# Altium schematic symbol library MIC5219-x.SchLib: 20 symbols
Pins are listed as number, name and electrical type; pins without a type are passive.

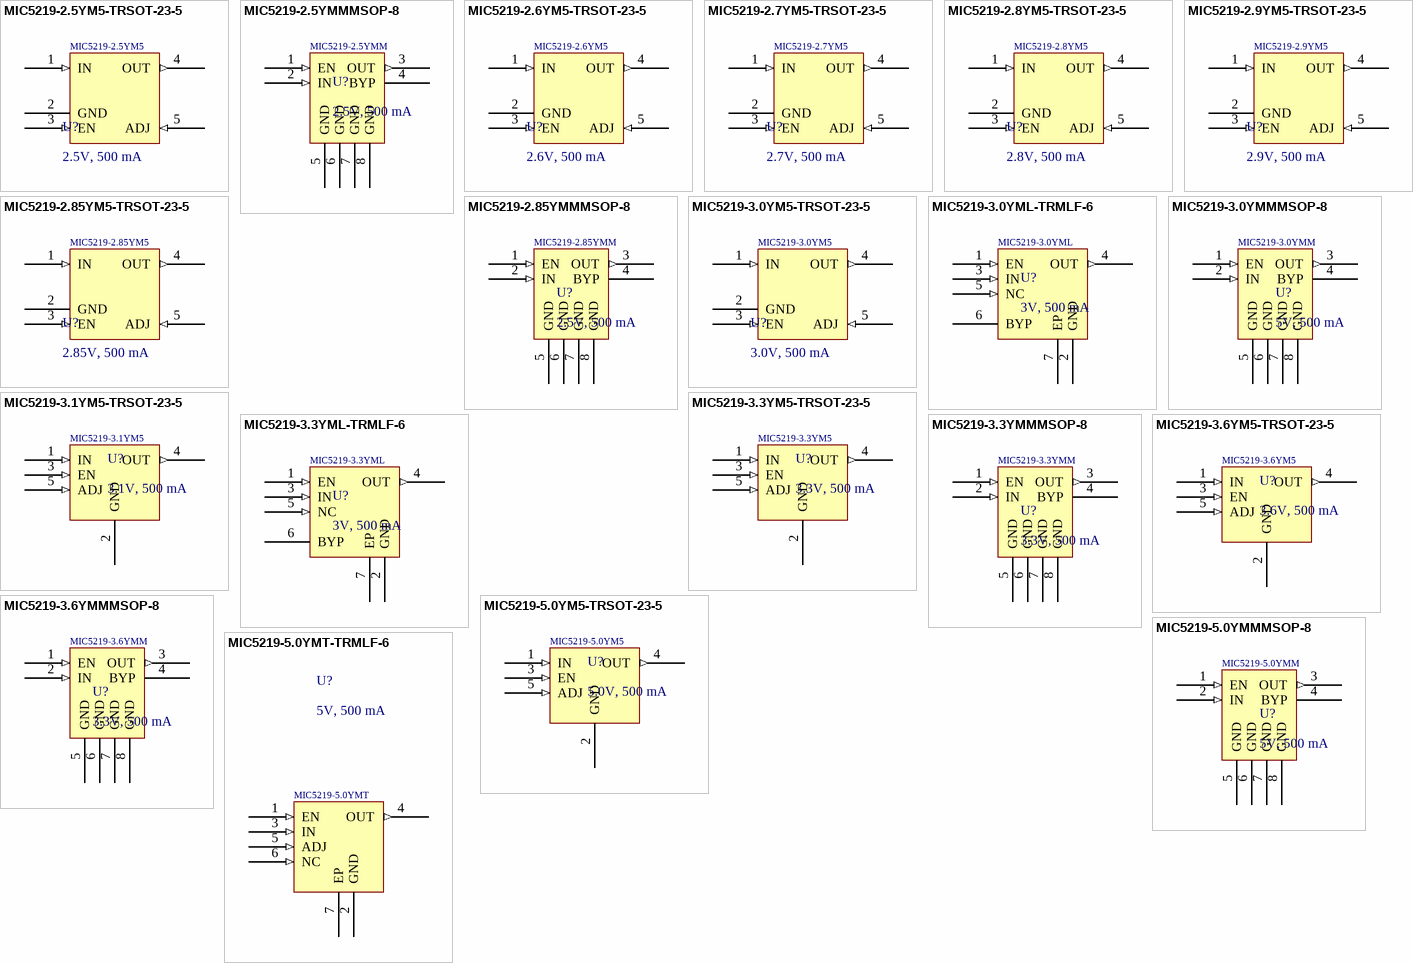
[diagram p0: symbols MIC5219-2.5YM5-TRSOT-23-5 to MIC5219-5.0YMT-TRMLF-6]

## MIC5219-2.5YM5-TRSOT-23-5
designator U?, comment 2.5V, 500 mA
MIC5219-x family LDO Voltage Regulators, 2.5V output; Manufacturer: Microchip; Manufacturer SN: MIC5219-2.5YM5-TR; Number of Outputs: 1; Input Voltage: 2.5 -12 V; Output Current: 500 mA; PSRR: 75 dB; Dropout Voltage: 350-600 mV; Mounting Style: SMD/SMT; Package / Case: SOT-23-5; ComponentLink1Description: Datasheet link; ComponentLink1URL: https://ww1.microchip.com/downloads/en/DeviceDoc/MIC5219-500mA-Peak-Output-LDO-Regulator-DS20006021A.pdf; ComponentLink2Description: Supplier 1 URL; ComponentLink2URL: https://www.mouser.vn/ProductDetail/Microchip-Technology/MIC5219-2.5YM5-TR?qs=U6T8BxXiZAXURjP%2FxpAn8w%3D%3D; ComponentLink3Description: Supplier 2 URL; ComponentLink3URL: https://www.digikey.com/en/products/detail/microchip-technology/MIC5219-2-5YM5-TR/1030543?s=N4IgTCBcDaILIEkDCBWMBGAnAWjAOhQE04VsAVAJRAF0BfIA; ComponentLink4Description: Supplier 3 URL; ComponentLink4URL: N/A; Supplier 1 Name: Mouser; Supplier 1 SN: 998-MIC5219-2.5YM5TR; Supplier 1 URL: https://www.mouser.vn/ProductDetail/Microchip-Technology/MIC5219-2.5YM5-TR?qs=U6T8BxXiZAXURjP%2FxpAn8w%3D%3D; Supplier 2 Name: Digi-Key; Supplier 2 SN: 576-2758-2-ND; Supplier 2 URL: https://www.digikey.com/en/products/detail/microchip-technology/MIC5219-2-5YM5-TR/1030543?s=N4IgTCBcDaILIEkDCBWMBGAnAWjAOhQE04VsAVAJRAF0BfIA; Supplier 3 Name: thegioiic; Supplier 3 SN: N/A; Supplier 3 URL: N/A; Value: 2.5V, 500 mA; Voltage Output: 2.5V
footprint MIC5219-x.xYM5 (MIC5219-x.xYM5, SOT-23-5)
pins: 1 IN (in), 2 GND (power), 3 EN (in), 4 OUT (out), 5 ADJ (in)
text: MIC5219-2.5YM5

## MIC5219-2.5YMMMSOP-8
designator U?, comment 2.5V, 500 mA
MIC5219-x family LDO Voltage Regulators, 2.5V output; Manufacturer: Microchip; Manufacturer SN: MIC5219-2.5YMM; Number of Outputs: 1; Input Voltage: 2.5 -12 V; Output Current: 500 mA; PSRR: 75 dB; Dropout Voltage: 350-600 mV; Mounting Style: SMD/SMT; Package / Case: MSOP-8; ComponentLink1Description: Datasheet link; ComponentLink1URL: https://ww1.microchip.com/downloads/en/DeviceDoc/MIC5219-500mA-Peak-Output-LDO-Regulator-DS20006021A.pdf; ComponentLink2Description: Supplier 1 URL; ComponentLink2URL: https://www.mouser.vn/ProductDetail/Microchip-Technology/MIC5219-2.5YMM?qs=kh6iOki%2FeLGSwVLHtzUtsQ%3D%3D; ComponentLink3Description: Supplier 2 URL; ComponentLink3URL: https://www.digikey.com/en/products/detail/microchip-technology/MIC5219-2-5YMM/1030544; ComponentLink4Description: Supplier 3 URL; ComponentLink4URL: N/A; Supplier 1 Name: Mouser; Supplier 1 SN: 998-MIC5219-2.5YMM; Supplier 1 URL: https://www.mouser.vn/ProductDetail/Microchip-Technology/MIC5219-2.5YMM?qs=kh6iOki%2FeLGSwVLHtzUtsQ%3D%3D; Supplier 2 Name: Digi-Key; Supplier 2 SN: 576-2376-ND; Supplier 2 URL: https://www.digikey.com/en/products/detail/microchip-technology/MIC5219-2-5YMM/1030544; Supplier 3 Name: thegioiic; Supplier 3 SN: N/A; Supplier 3 URL: N/A; Value: 2.5V, 500 mA; Voltage Output: 2.5V
footprint MIC5219-x.xYMM (MIC5219-x.xYMM, SOT-23-5)
pins: 1 EN (in), 2 IN (in), 3 OUT (out), 4 BYP, 5 GND (power), 6 GND (power), 7 GND (power), 8 GND (power)

## MIC5219-2.6YM5-TRSOT-23-5
designator U?, comment 2.6V, 500 mA
MIC5219-x family LDO Voltage Regulators, 2.6V output; Manufacturer: Microchip; Manufacturer SN: MIC5219-2.6YM5-TR; Number of Outputs: 1; Input Voltage: 2.5 -12 V; Output Current: 500 mA; PSRR: 75 dB; Dropout Voltage: 350-600 mV; Mounting Style: SMD/SMT; Package / Case: SOT-23-5; ComponentLink1Description: Datasheet link; ComponentLink1URL: https://ww1.microchip.com/downloads/en/DeviceDoc/MIC5219-500mA-Peak-Output-LDO-Regulator-DS20006021A.pdf; ComponentLink2Description: Supplier 1 URL; ComponentLink2URL: https://www.mouser.vn/ProductDetail/Microchip-Technology/MIC5219-2.6YM5-TR?qs=U6T8BxXiZAU94MGLjAqlLA%3D%3D; ComponentLink3Description: Supplier 2 URL; ComponentLink3URL: https://www.digikey.com/en/products/detail/microchip-technology/MIC5219-2-6YM5-TR/1030548?s=N4IgTCBcDaILIEkDCBWMBGAnAWjAOgDYBNOFbAFQCUQBdAXyA; ComponentLink4Description: Supplier 3 URL; ComponentLink4URL: N/A; Supplier 1 Name: Mouser; Supplier 1 SN: 998-MIC5219-2.6YM5TR; Supplier 1 URL: https://www.mouser.vn/ProductDetail/Microchip-Technology/MIC5219-2.6YM5-TR?qs=U6T8BxXiZAU94MGLjAqlLA%3D%3D; Supplier 2 Name: Digi-Key; Supplier 2 SN: 576-2759-2-ND; Supplier 2 URL: https://www.digikey.com/en/products/detail/microchip-technology/MIC5219-2-6YM5-TR/1030548?s=N4IgTCBcDaILIEkDCBWMBGAnAWjAOgDYBNOFbAFQCUQBdAXyA; Supplier 3 Name: thegioiic; Supplier 3 SN: N/A; Supplier 3 URL: N/A; Value: 2.6V, 500 mA; Voltage Output: 2.6V
footprint MIC5219-x.xYM5 (MIC5219-x.xYM5, SOT-23-5)
pins: 1 IN (in), 2 GND (power), 3 EN (in), 4 OUT (out), 5 ADJ (in)
text: MIC5219-2.6YM5

## MIC5219-2.7YM5-TRSOT-23-5
designator U?, comment 2.7V, 500 mA
MIC5219-x family LDO Voltage Regulators, 2.7V output; Manufacturer: Microchip; Manufacturer SN: MIC5219-2.7YM5-TR; Number of Outputs: 1; Input Voltage: 2.5 -12 V; Output Current: 500 mA; PSRR: 75 dB; Dropout Voltage: 350-600 mV; Mounting Style: SMD/SMT; Package / Case: SOT-23-5; ComponentLink1Description: Datasheet link; ComponentLink1URL: https://ww1.microchip.com/downloads/en/DeviceDoc/MIC5219-500mA-Peak-Output-LDO-Regulator-DS20006021A.pdf; ComponentLink2Description: Supplier 1 URL; ComponentLink2URL: https://www.mouser.vn/ProductDetail/Microchip-Technology/MIC5219-2.7YM5-TR?qs=U6T8BxXiZAX%2Fh5H9qQkMlQ%3D%3D; ComponentLink3Description: Supplier 2 URL; ComponentLink3URL: https://www.digikey.com/en/products/detail/microchip-technology/MIC5219-2-7YM5-TR/1030550?s=N4IgTCBcDaILIEkDCBWMBGAnAWjAOgHYBNOFbAFQCUQBdAXyA; ComponentLink4Description: Supplier 3 URL; ComponentLink4URL: N/A; Supplier 1 Name: Mouser; Supplier 1 SN: 998-MIC5219-2.7YM5TR; Supplier 1 URL: https://www.mouser.vn/ProductDetail/Microchip-Technology/MIC5219-2.7YM5-TR?qs=U6T8BxXiZAX%2Fh5H9qQkMlQ%3D%3D; Supplier 2 Name: Digi-Key; Supplier 2 SN: 576-2760-2-ND; Supplier 2 URL: https://www.digikey.com/en/products/detail/microchip-technology/MIC5219-2-7YM5-TR/1030550?s=N4IgTCBcDaILIEkDCBWMBGAnAWjAOgHYBNOFbAFQCUQBdAXyA; Supplier 3 Name: thegioiic; Supplier 3 SN: N/A; Supplier 3 URL: N/A; Value: 2.7V, 500 mA; Voltage Output: 2.7V
footprint MIC5219-x.xYM5 (MIC5219-x.xYM5, SOT-23-5)
pins: 1 IN (in), 2 GND (power), 3 EN (in), 4 OUT (out), 5 ADJ (in)
text: MIC5219-2.7YM5

## MIC5219-2.8YM5-TRSOT-23-5
designator U?, comment 2.8V, 500 mA
MIC5219-x family LDO Voltage Regulators, 2.8V output; Manufacturer: Microchip; Manufacturer SN: MIC5219-2.8YM5-TR; Number of Outputs: 1; Input Voltage: 2.5 -12 V; Output Current: 500 mA; PSRR: 75 dB; Dropout Voltage: 350-600 mV; Mounting Style: SMD/SMT; Package / Case: SOT-23-5; ComponentLink1Description: Datasheet link; ComponentLink1URL: https://ww1.microchip.com/downloads/en/DeviceDoc/MIC5219-500mA-Peak-Output-LDO-Regulator-DS20006021A.pdf; ComponentLink2Description: Supplier 1 URL; ComponentLink2URL: https://www.mouser.vn/ProductDetail/Microchip-Technology/MIC5219-2.8YM5-TR?qs=U6T8BxXiZAXy80gOmotftg%3D%3D; ComponentLink3Description: Supplier 2 URL; ComponentLink3URL: https://www.digikey.com/en/products/detail/microchip-technology/MIC5219-2-8YM5-TR/1030559?s=N4IgTCBcDaILIEkDCBWMBGAnAWjAOgA4BNOFbAFQCUQBdAXyA; ComponentLink4Description: Supplier 3 URL; ComponentLink4URL: N/A; Supplier 1 Name: Mouser; Supplier 1 SN: 998-MIC5219-2.8YM5TR; Supplier 1 URL: https://www.mouser.vn/ProductDetail/Microchip-Technology/MIC5219-2.8YM5-TR?qs=U6T8BxXiZAXy80gOmotftg%3D%3D; Supplier 2 Name: Digi-Key; Supplier 2 SN: 576-2762-2-ND; Supplier 2 URL: https://www.digikey.com/en/products/detail/microchip-technology/MIC5219-2-8YM5-TR/1030559?s=N4IgTCBcDaILIEkDCBWMBGAnAWjAOgA4BNOFbAFQCUQBdAXyA; Supplier 3 Name: thegioiic; Supplier 3 SN: N/A; Supplier 3 URL: N/A; Value: 2.8V, 500 mA; Voltage Output: 2.8V
footprint MIC5219-x.xYM5 (MIC5219-x.xYM5, SOT-23-5)
pins: 1 IN (in), 2 GND (power), 3 EN (in), 4 OUT (out), 5 ADJ (in)
text: MIC5219-2.8YM5

## MIC5219-2.9YM5-TRSOT-23-5
designator U?, comment 2.9V, 500 mA
MIC5219-x family LDO Voltage Regulators, 2.9V output; Manufacturer: Microchip; Manufacturer SN: MIC5219-2.9YM5-TR; Number of Outputs: 1; Input Voltage: 2.5 -12 V; Output Current: 500 mA; PSRR: 75 dB; Dropout Voltage: 350-600 mV; Mounting Style: SMD/SMT; Package / Case: SOT-23-5; ComponentLink1Description: Datasheet link; ComponentLink1URL: https://ww1.microchip.com/downloads/en/DeviceDoc/MIC5219-500mA-Peak-Output-LDO-Regulator-DS20006021A.pdf; ComponentLink2Description: Supplier 1 URL; ComponentLink2URL: https://www.mouser.vn/ProductDetail/Microchip-Technology/MIC5219-2.9YM5-TR?qs=U6T8BxXiZAUu28ZTWpa0Sw%3D%3D; ComponentLink3Description: Supplier 2 URL; ComponentLink3URL: https://www.digikey.com/en/products/detail/microchip-technology/MIC5219-2-9YM5-TR/1030562?s=N4IgTCBcDaILIEkDCBWMBGAnAWjAOkwE04VsAVAJRAF0BfIA; ComponentLink4Description: Supplier 3 URL; ComponentLink4URL: N/A; Supplier 1 Name: Mouser; Supplier 1 SN: 998-MIC5219-2.9YM5TR; Supplier 1 URL: https://www.mouser.vn/ProductDetail/Microchip-Technology/MIC5219-2.9YM5-TR?qs=U6T8BxXiZAUu28ZTWpa0Sw%3D%3D; Supplier 2 Name: Digi-Key; Supplier 2 SN: 576-2764-2-ND; Supplier 2 URL: https://www.digikey.com/en/products/detail/microchip-technology/MIC5219-2-9YM5-TR/1030562?s=N4IgTCBcDaILIEkDCBWMBGAnAWjAOkwE04VsAVAJRAF0BfIA; Supplier 3 Name: thegioiic; Supplier 3 SN: N/A; Supplier 3 URL: N/A; Value: 2.9V, 500 mA; Voltage Output: 2.9V
footprint MIC5219-x.xYM5 (MIC5219-x.xYM5, SOT-23-5)
pins: 1 IN (in), 2 GND (power), 3 EN (in), 4 OUT (out), 5 ADJ (in)
text: MIC5219-2.9YM5

## MIC5219-2.85YM5-TRSOT-23-5
designator U?, comment 2.85V, 500 mA
MIC5219-x family LDO Voltage Regulators, 2.85V output; Manufacturer: Microchip; Manufacturer SN: MIC5219-2.85YM5-TR; Number of Outputs: 1; Input Voltage: 2.5 -12 V; Output Current: 500 mA; PSRR: 75 dB; Dropout Voltage: 350-600 mV; Mounting Style: SMD/SMT; Package / Case: SOT-23-5; ComponentLink1Description: Datasheet link; ComponentLink1URL: https://ww1.microchip.com/downloads/en/DeviceDoc/MIC5219-500mA-Peak-Output-LDO-Regulator-DS20006021A.pdf; ComponentLink2Description: Supplier 1 URL; ComponentLink2URL: https://www.digikey.com/en/products/detail/microchip-technology/MIC5219-2-85YM5-TR/5700955; ComponentLink3Description: Supplier 2 URL; ComponentLink3URL: https://www.digikey.com/en/products/detail/microchip-technology/MIC5219-2-85YM5-TR/5700955; ComponentLink4Description: Supplier 3 URL; ComponentLink4URL: N/A; Supplier 1 Name: Mouser; Supplier 1 SN: 998-MIC52192.85YM5TR; Supplier 1 URL: https://www.digikey.com/en/products/detail/microchip-technology/MIC5219-2-85YM5-TR/5700955; Supplier 2 Name: Digi-Key; Supplier 2 SN: 576-2761-2-ND; Supplier 2 URL: https://www.digikey.com/en/products/detail/microchip-technology/MIC5219-2-85YM5-TR/5700955; Supplier 3 Name: thegioiic; Supplier 3 SN: N/A; Supplier 3 URL: N/A; Value: 2.85V, 500 mA; Voltage Output: 2.85V
footprint MIC5219-x.xYM5 (MIC5219-x.xYM5, SOT-23-5)
pins: 1 IN (in), 2 GND (power), 3 EN (in), 4 OUT (out), 5 ADJ (in)
text: MIC5219-2.85YM5

## MIC5219-2.85YMMMSOP-8
designator U?, comment 2.5V, 500 mA
MIC5219-x family LDO Voltage Regulators, 2.85V output; Manufacturer: Microchip; Manufacturer SN: MIC5219-2.85YMM; Number of Outputs: 1; Input Voltage: 2.5 -12 V; Output Current: 500 mA; PSRR: 75 dB; Dropout Voltage: 350-600 mV; Mounting Style: SMD/SMT; Package / Case: MSOP-8; ComponentLink1Description: Datasheet link; ComponentLink1URL: https://ww1.microchip.com/downloads/en/DeviceDoc/MIC5219-500mA-Peak-Output-LDO-Regulator-DS20006021A.pdf; ComponentLink2Description: Supplier 1 URL; ComponentLink2URL: https://www.mouser.vn/ProductDetail/Microchip-Technology/MIC5219-2.85YMM?qs=kh6iOki%2FeLGFTrYYM9DwNg%3D%3D; ComponentLink3Description: Supplier 2 URL; ComponentLink3URL: https://www.digikey.com/en/products/detail/microchip-technology/MIC5219-2-85YMM/1030555; ComponentLink4Description: Supplier 3 URL; ComponentLink4URL: N/A; Supplier 1 Name: Mouser; Supplier 1 SN: 998-MIC5219-2.85YMM; Supplier 1 URL: https://www.mouser.vn/ProductDetail/Microchip-Technology/MIC5219-2.85YMM?qs=kh6iOki%2FeLGFTrYYM9DwNg%3D%3D; Supplier 2 Name: Digi-Key; Supplier 2 SN: MIC5219-2.85YMM-ND; Supplier 2 URL: https://www.digikey.com/en/products/detail/microchip-technology/MIC5219-2-85YMM/1030555; Supplier 3 Name: thegioiic; Supplier 3 SN: N/A; Supplier 3 URL: N/A; Value: 2.5V, 500 mA; Voltage Output: 2.5V
footprint MIC5219-x.xYMM (MIC5219-x.xYMM, SOT-23-5)
pins: 1 EN (in), 2 IN (in), 3 OUT (out), 4 BYP, 5 GND (power), 6 GND (power), 7 GND (power), 8 GND (power)

## MIC5219-3.0YM5-TRSOT-23-5
designator U?, comment 3.0V, 500 mA
MIC5219-x family LDO Voltage Regulators, 3.0V output; Manufacturer: Microchip; Manufacturer SN: MIC5219-3.0YM5-TR; Number of Outputs: 1; Input Voltage: 2.5 -12 V; Output Current: 500 mA; PSRR: 75 dB; Dropout Voltage: 350-600 mV; Mounting Style: SMD/SMT; Package / Case: SOT-23-5; ComponentLink1Description: Datasheet link; ComponentLink1URL: https://ww1.microchip.com/downloads/en/DeviceDoc/MIC5219-500mA-Peak-Output-LDO-Regulator-DS20006021A.pdf; ComponentLink2Description: Supplier 1 URL; ComponentLink2URL: https://www.mouser.vn/ProductDetail/Microchip-Technology/MIC5219-3.0YM5-TR?qs=U6T8BxXiZAWAOOoEZYaLhA%3D%3D; ComponentLink3Description: Supplier 2 URL; ComponentLink3URL: https://www.digikey.com/en/products/detail/microchip-technology/MIC5219-3-0YM5-TR/1030566?s=N4IgTCBcDaILIEkDCBWMBGAnAWgMwDoAGATThWwBUAlEAXQF8g; ComponentLink4Description: Supplier 3 URL; ComponentLink4URL: N/A; Supplier 1 Name: Mouser; Supplier 1 SN: 998-MIC5219-3.0YM5TR; Supplier 1 URL: https://www.mouser.vn/ProductDetail/Microchip-Technology/MIC5219-3.0YM5-TR?qs=U6T8BxXiZAWAOOoEZYaLhA%3D%3D; Supplier 2 Name: Digi-Key; Supplier 2 SN: 576-2765-2-ND; Supplier 2 URL: https://www.digikey.com/en/products/detail/microchip-technology/MIC5219-3-0YM5-TR/1030566?s=N4IgTCBcDaILIEkDCBWMBGAnAWgMwDoAGATThWwBUAlEAXQF8g; Supplier 3 Name: thegioiic; Supplier 3 SN: N/A; Supplier 3 URL: N/A; Value: 3.0V, 500 mA; Voltage Output: 3.0V
footprint MIC5219-x.xYM5 (MIC5219-x.xYM5, SOT-23-5)
pins: 1 IN (in), 2 GND (power), 3 EN (in), 4 OUT (out), 5 ADJ (in)
text: MIC5219-3.0YM5

## MIC5219-3.0YML-TRMLF-6
designator U?, comment 3V, 500 mA
MIC5219-x family LDO Voltage Regulators, 3.0V output; Manufacturer: Microchip; Manufacturer SN: MIC5219-3.0YML-TR; Number of Outputs: 1; Input Voltage: 2.5 -12 V; Output Current: 500 mA; PSRR: 75 dB; Dropout Voltage: 350-600 mV; Mounting Style: SMD/SMT; Package / Case: MLF-6; ComponentLink1Description: Datasheet link; ComponentLink1URL: https://ww1.microchip.com/downloads/en/DeviceDoc/MIC5219-500mA-Peak-Output-LDO-Regulator-DS20006021A.pdf; ComponentLink2Description: Supplier 1 URL; ComponentLink2URL: https://www.mouser.vn/ProductDetail/Microchip-Technology/MIC5219-3.0YML-TR?qs=U6T8BxXiZAWwN17UQBAcEg%3D%3D; ComponentLink3Description: Supplier 2 URL; ComponentLink3URL: https://www.digikey.com/en/products/detail/microchip-technology/MIC5219-3-0YML-TR/1030567?s=N4IgTCBcDaILIEkDCBWMBGAnAWgMwDoAGATTgBlsAVAJRAF0BfIA; ComponentLink4Description: Supplier 3 URL; ComponentLink4URL: N/A; Supplier 1 Name: Mouser; Supplier 1 SN: 998-MIC5219-3.0YMLTR; Supplier 1 URL: https://www.mouser.vn/ProductDetail/Microchip-Technology/MIC5219-3.0YML-TR?qs=U6T8BxXiZAWwN17UQBAcEg%3D%3D; Supplier 2 Name: Digi-Key; Supplier 2 SN: 576-2766-2-ND; Supplier 2 URL: https://www.digikey.com/en/products/detail/microchip-technology/MIC5219-3-0YML-TR/1030567?s=N4IgTCBcDaILIEkDCBWMBGAnAWgMwDoAGATTgBlsAVAJRAF0BfIA; Supplier 3 Name: thegioiic; Supplier 3 SN: N/A; Supplier 3 URL: N/A; Value: 3V, 500 mA; Voltage Output: 3V
footprint MIC5219-x.xYML/MT (MIC5219-x.xYML/MT, 6-Pin MLF)
pins: 1 EN (in), 2 GND (power), 3 IN (in), 4 OUT (out), 5 NC (in), 6 BYP, 7 EP (power)
text: MIC5219-3.0YML

## MIC5219-3.0YMMMSOP-8
designator U?, comment 5V, 500 mA
MIC5219-x family LDO Voltage Regulators, 3.0V output; Manufacturer: Microchip; Manufacturer SN: MIC5219-3.0YMM; Number of Outputs: 1; Input Voltage: 2.5 -12 V; Output Current: 500 mA; PSRR: 75 dB; Dropout Voltage: 350-600 mV; Mounting Style: SMD/SMT; Package / Case: MSOP-8; ComponentLink1Description: Datasheet link; ComponentLink1URL: https://ww1.microchip.com/downloads/en/DeviceDoc/MIC5219-500mA-Peak-Output-LDO-Regulator-DS20006021A.pdf; ComponentLink2Description: Supplier 1 URL; ComponentLink2URL: https://www.mouser.vn/ProductDetail/Microchip-Technology/MIC5219-3.0YMM?qs=kh6iOki%2FeLGPfoR%2FMRsl%252BQ%3D%3D; ComponentLink3Description: Supplier 2 URL; ComponentLink3URL: https://www.digikey.com/en/products/detail/microchip-technology/MIC5219-3-0YMM/1030568; ComponentLink4Description: Supplier 3 URL; ComponentLink4URL: N/A; Supplier 1 Name: Mouser; Supplier 1 SN: 998-MIC5219-3.0YMM; Supplier 1 URL: https://www.mouser.vn/ProductDetail/Microchip-Technology/MIC5219-3.0YMM?qs=kh6iOki%2FeLGPfoR%2FMRsl%252BQ%3D%3D; Supplier 2 Name: Digi-Key; Supplier 2 SN: MIC5219-3.0YMM-ND; Supplier 2 URL: https://www.digikey.com/en/products/detail/microchip-technology/MIC5219-3-0YMM/1030568; Supplier 3 Name: thegioiic; Supplier 3 SN: N/A; Supplier 3 URL: N/A; Value: 5V, 500 mA; Voltage Output: 5V
footprint MIC5219-x.xYMM (MIC5219-x.xYMM, SOT-23-5)
pins: 1 EN (in), 2 IN (in), 3 OUT (out), 4 BYP, 5 GND (power), 6 GND (power), 7 GND (power), 8 GND (power)

## MIC5219-3.1YM5-TRSOT-23-5
designator U?, comment 3.1V, 500 mA
MIC5219-x family LDO Voltage Regulators, 3.1V output; Manufacturer: Microchip; Manufacturer SN: MIC5219-3.1YM5-TR; Number of Outputs: 1; Input Voltage: 2.5 -12 V; Output Current: 500 mA; PSRR: 75 dB; Dropout Voltage: 350-600 mV; Mounting Style: SMD/SMT; Package / Case: SOT-23-5; ComponentLink1Description: Datasheet link; ComponentLink1URL: https://ww1.microchip.com/downloads/en/DeviceDoc/MIC5219-500mA-Peak-Output-LDO-Regulator-DS20006021A.pdf; ComponentLink2Description: Supplier 1 URL; ComponentLink2URL: https://www.mouser.vn/ProductDetail/Microchip-Technology/MIC5219-3.1YM5-TR?qs=U6T8BxXiZAXAsa136zQ9lw%3D%3D; ComponentLink3Description: Supplier 2 URL; ComponentLink3URL: https://www.digikey.com/en/products/detail/microchip-technology/MIC5219-3-1YM5-TR/1030570?s=N4IgTCBcDaILIEkDCBWMBGAnAWgMwDp0BNOFbAFQCUQBdAXyA; ComponentLink4Description: Supplier 3 URL; ComponentLink4URL: N/A; Supplier 1 Name: Mouser; Supplier 1 SN: 998-MIC5219-3.1YM5TR; Supplier 1 URL: https://www.mouser.vn/ProductDetail/Microchip-Technology/MIC5219-3.1YM5-TR?qs=U6T8BxXiZAXAsa136zQ9lw%3D%3D; Supplier 2 Name: Digi-Key; Supplier 2 SN: 576-2767-2-ND; Supplier 2 URL: https://www.digikey.com/en/products/detail/microchip-technology/MIC5219-3-1YM5-TR/1030570?s=N4IgTCBcDaILIEkDCBWMBGAnAWgMwDp0BNOFbAFQCUQBdAXyA; Supplier 3 Name: thegioiic; Supplier 3 SN: N/A; Supplier 3 URL: N/A; Value: 3.1V, 500 mA; Voltage Output: 3.1V
footprint MIC5219-x.xYM5 (MIC5219-x.xYM5, SOT-23-5)
pins: 1 IN (in), 2 GND (power), 3 EN (in), 4 OUT (out), 5 ADJ (in)
text: MIC5219-3.1YM5

## MIC5219-3.3YM5-TRSOT-23-5
designator U?, comment 3.3V, 500 mA
MIC5219-x family LDO Voltage Regulators, 3.3V output; Manufacturer: Microchip; Manufacturer SN: MIC5219-3.3YM5-TR; Number of Outputs: 1; Input Voltage: 2.5 -12 V; Output Current: 500 mA; PSRR: 75 dB; Dropout Voltage: 350-600 mV; Mounting Style: SMD/SMT; Package / Case: SOT-23-5; ComponentLink1Description: Datasheet link; ComponentLink1URL: https://ww1.microchip.com/downloads/en/DeviceDoc/MIC5219-500mA-Peak-Output-LDO-Regulator-DS20006021A.pdf; ComponentLink2Description: Supplier 1 URL; ComponentLink2URL: https://www.mouser.vn/ProductDetail/Microchip-Technology/MIC5219-3.3YM5-TR?qs=U6T8BxXiZAWojkIJMtSJlw%3D%3D; ComponentLink3Description: Supplier 2 URL; ComponentLink3URL: https://www.digikey.com/en/products/detail/microchip-technology/MIC5219-3-3YM5-TR/771750?s=N4IgTCBcDaILIEkDCBWMBGAnAWgMwDpcBNOFbAFQCUQBdAXyA; ComponentLink4Description: Supplier 3 URL; ComponentLink4URL: N/A; Supplier 1 Name: Mouser; Supplier 1 SN: 998-MIC5219-3.3YM5TR; Supplier 1 URL: https://www.mouser.vn/ProductDetail/Microchip-Technology/MIC5219-3.3YM5-TR?qs=U6T8BxXiZAWojkIJMtSJlw%3D%3D; Supplier 2 Name: Digi-Key; Supplier 2 SN: 576-1281-2-ND; Supplier 2 URL: https://www.digikey.com/en/products/detail/microchip-technology/MIC5219-3-3YM5-TR/771750?s=N4IgTCBcDaILIEkDCBWMBGAnAWgMwDpcBNOFbAFQCUQBdAXyA; Supplier 3 Name: thegioiic; Supplier 3 SN: N/A; Supplier 3 URL: N/A; Value: 3.3V, 500 mA; Voltage Output: 3.3V
footprint MIC5219-x.xYM5 (MIC5219-x.xYM5, SOT-23-5)
pins: 1 IN (in), 2 GND (power), 3 EN (in), 4 OUT (out), 5 ADJ (in)
text: MIC5219-3.3YM5

## MIC5219-3.3YML-TRMLF-6
designator U?, comment 3V, 500 mA
MIC5219-x family LDO Voltage Regulators, 3.3V output; Manufacturer: Microchip; Manufacturer SN: MIC5219-3.3YML-TR; Number of Outputs: 1; Input Voltage: 2.5 -12 V; Output Current: 500 mA; PSRR: 75 dB; Dropout Voltage: 350-600 mV; Mounting Style: SMD/SMT; Package / Case: MLF-6; ComponentLink1Description: Datasheet link; ComponentLink1URL: https://ww1.microchip.com/downloads/en/DeviceDoc/MIC5219-500mA-Peak-Output-LDO-Regulator-DS20006021A.pdf; ComponentLink2Description: Supplier 1 URL; ComponentLink2URL: https://www.mouser.vn/ProductDetail/Microchip-Technology/MIC5219-3.3YML-TR?qs=U6T8BxXiZAUE302TO%252BbaEg%3D%3D; ComponentLink3Description: Supplier 2 URL; ComponentLink3URL: https://www.digikey.com/en/products/detail/microchip-technology/MIC5219-3-3YML-TR/1030574?s=N4IgTCBcDaILIEkDCBWMBGAnAWgMwDpcBNOAGWwBUAlEAXQF8g; ComponentLink4Description: Supplier 3 URL; ComponentLink4URL: N/A; Supplier 1 Name: Mouser; Supplier 1 SN: 998-MIC5219-3.3YMLTR; Supplier 1 URL: https://www.mouser.vn/ProductDetail/Microchip-Technology/MIC5219-3.3YML-TR?qs=U6T8BxXiZAUE302TO%252BbaEg%3D%3D; Supplier 2 Name: Digi-Key; Supplier 2 SN: 576-2768-2-NDQ; Supplier 2 URL: https://www.digikey.com/en/products/detail/microchip-technology/MIC5219-3-3YML-TR/1030574?s=N4IgTCBcDaILIEkDCBWMBGAnAWgMwDpcBNOAGWwBUAlEAXQF8g; Supplier 3 Name: thegioiic; Supplier 3 SN: N/A; Supplier 3 URL: N/A; Value: 3V, 500 mA; Voltage Output: 3V
footprint MIC5219-x.xYML/MT (MIC5219-x.xYML/MT, 6-Pin MLF)
pins: 1 EN (in), 2 GND (power), 3 IN (in), 4 OUT (out), 5 NC (in), 6 BYP, 7 EP (power)
text: MIC5219-3.3YML

## MIC5219-3.3YMMMSOP-8
designator U?, comment 3.3V, 500 mA
MIC5219-x family LDO Voltage Regulators, 3.3V output; Manufacturer: Microchip; Manufacturer SN: MIC5219-3.3YMM; Number of Outputs: 1; Input Voltage: 2.5 -12 V; Output Current: 500 mA; PSRR: 75 dB; Dropout Voltage: 350-600 mV; Mounting Style: SMD/SMT; Package / Case: MSOP-8; ComponentLink1Description: Datasheet link; ComponentLink1URL: https://ww1.microchip.com/downloads/en/DeviceDoc/MIC5219-500mA-Peak-Output-LDO-Regulator-DS20006021A.pdf; ComponentLink2Description: Supplier 1 URL; ComponentLink2URL: https://www.mouser.vn/ProductDetail/Microchip-Technology/MIC5219-3.3YMM?qs=kh6iOki%2FeLEAgynv4GcWkQ%3D%3D; ComponentLink3Description: Supplier 2 URL; ComponentLink3URL: https://www.digikey.com/en/products/detail/microchip-technology/MIC5219-3-3YMM/1030575; ComponentLink4Description: Supplier 3 URL; ComponentLink4URL: N/A; Supplier 1 Name: Mouser; Supplier 1 SN: 998-MIC5219-3.3YMM; Supplier 1 URL: https://www.mouser.vn/ProductDetail/Microchip-Technology/MIC5219-3.3YMM?qs=kh6iOki%2FeLEAgynv4GcWkQ%3D%3D; Supplier 2 Name: Digi-Key; Supplier 2 SN: 576-1827-5-ND; Supplier 2 URL: https://www.digikey.com/en/products/detail/microchip-technology/MIC5219-3-3YMM/1030575; Supplier 3 Name: thegioiic; Supplier 3 SN: N/A; Supplier 3 URL: N/A; Value: 3.3V, 500 mA; Voltage Output: 3.3V
footprint MIC5219-x.xYMM (MIC5219-x.xYMM, SOT-23-5)
pins: 1 EN (in), 2 IN (in), 3 OUT (out), 4 BYP, 5 GND (power), 6 GND (power), 7 GND (power), 8 GND (power)

## MIC5219-3.6YM5-TRSOT-23-5
designator U?, comment 3.6V, 500 mA
MIC5219-x family LDO Voltage Regulators, 3.6V output; Manufacturer: Microchip; Manufacturer SN: MIC5219-3.6YM5-TR; Number of Outputs: 1; Input Voltage: 2.5 -12 V; Output Current: 500 mA; PSRR: 75 dB; Dropout Voltage: 350-600 mV; Mounting Style: SMD/SMT; Package / Case: SOT-23-5; ComponentLink1Description: Datasheet link; ComponentLink1URL: https://ww1.microchip.com/downloads/en/DeviceDoc/MIC5219-500mA-Peak-Output-LDO-Regulator-DS20006021A.pdf; ComponentLink2Description: Supplier 1 URL; ComponentLink2URL: https://www.mouser.vn/ProductDetail/Microchip-Technology/MIC5219-3.6YM5-TR?qs=U6T8BxXiZAWOHIj15bI33A%3D%3D; ComponentLink3Description: Supplier 2 URL; ComponentLink3URL: https://www.digikey.com/en/products/detail/microchip-technology/MIC5219-3-6YM5-TR/1030580?s=N4IgTCBcDaILIEkDCBWMBGAnAWgMwDoA2ATThWwBUAlEAXQF8g; ComponentLink4Description: Supplier 3 URL; ComponentLink4URL: N/A; Supplier 1 Name: Mouser; Supplier 1 SN: 998-MIC5219-3.6YM5TR; Supplier 1 URL: https://www.mouser.vn/ProductDetail/Microchip-Technology/MIC5219-3.6YM5-TR?qs=U6T8BxXiZAWOHIj15bI33A%3D%3D; Supplier 2 Name: Digi-Key; Supplier 2 SN: 576-2769-2-ND; Supplier 2 URL: https://www.digikey.com/en/products/detail/microchip-technology/MIC5219-3-6YM5-TR/1030580?s=N4IgTCBcDaILIEkDCBWMBGAnAWgMwDoA2ATThWwBUAlEAXQF8g; Supplier 3 Name: thegioiic; Supplier 3 SN: N/A; Supplier 3 URL: N/A; Value: 3.6V, 500 mA; Voltage Output: 3.6V
footprint MIC5219-x.xYM5 (MIC5219-x.xYM5, SOT-23-5)
pins: 1 IN (in), 2 GND (power), 3 EN (in), 4 OUT (out), 5 ADJ (in)
text: MIC5219-3.6YM5

## MIC5219-3.6YMMMSOP-8
designator U?, comment 3.3V, 500 mA
MIC5219-x family LDO Voltage Regulators, 3.6V output; Manufacturer: Microchip; Manufacturer SN: MIC5219-3.6YMM; Number of Outputs: 1; Input Voltage: 2.5 -12 V; Output Current: 500 mA; PSRR: 75 dB; Dropout Voltage: 350-600 mV; Mounting Style: SMD/SMT; Package / Case: MSOP-8; ComponentLink1Description: Datasheet link; ComponentLink1URL: https://ww1.microchip.com/downloads/en/DeviceDoc/MIC5219-500mA-Peak-Output-LDO-Regulator-DS20006021A.pdf; ComponentLink2Description: Supplier 1 URL; ComponentLink2URL: https://www.mouser.vn/ProductDetail/Microchip-Technology/MIC5219-3.6YMM?qs=kh6iOki%2FeLHQy6u%252Bz%2FlMaQ%3D%3D; ComponentLink3Description: Supplier 2 URL; ComponentLink3URL: https://www.digikey.com/en/products/detail/microchip-technology/MIC5219-3-6YMM/1030581; ComponentLink4Description: Supplier 3 URL; ComponentLink4URL: N/A; Supplier 1 Name: Mouser; Supplier 1 SN: 998-MIC5219-3.6YMM; Supplier 1 URL: https://www.mouser.vn/ProductDetail/Microchip-Technology/MIC5219-3.6YMM?qs=kh6iOki%2FeLHQy6u%252Bz%2FlMaQ%3D%3D; Supplier 2 Name: Digi-Key; Supplier 2 SN: MIC5219-3.6YMM-ND; Supplier 2 URL: https://www.digikey.com/en/products/detail/microchip-technology/MIC5219-3-6YMM/1030581; Supplier 3 Name: thegioiic; Supplier 3 SN: N/A; Supplier 3 URL: N/A; Value: 3.3V, 500 mA; Voltage Output: 3.3V
footprint MIC5219-x.xYMM (MIC5219-x.xYMM, SOT-23-5)
pins: 1 EN (in), 2 IN (in), 3 OUT (out), 4 BYP, 5 GND (power), 6 GND (power), 7 GND (power), 8 GND (power)

## MIC5219-5.0YM5-TRSOT-23-5
designator U?, comment 5.0V, 500 mA
MIC5219-x family LDO Voltage Regulators, 5.0V output; Manufacturer: Microchip; Manufacturer SN: MIC5219-5.0YM5-TR; Number of Outputs: 1; Input Voltage: 2.5 -12 V; Output Current: 500 mA; PSRR: 75 dB; Dropout Voltage: 350-600 mV; Mounting Style: SMD/SMT; Package / Case: SOT-23-5; ComponentLink1Description: Datasheet link; ComponentLink1URL: https://ww1.microchip.com/downloads/en/DeviceDoc/MIC5219-500mA-Peak-Output-LDO-Regulator-DS20006021A.pdf; ComponentLink2Description: Supplier 1 URL; ComponentLink2URL: https://www.mouser.vn/ProductDetail/Microchip-Technology/MIC5219-5.0YM5-TR?qs=U6T8BxXiZAXThrqii9sAvA%3D%3D; ComponentLink3Description: Supplier 2 URL; ComponentLink3URL: https://www.digikey.com/en/products/detail/microchip-technology/MIC5219-5-0YM5-TR/1030586?s=N4IgTCBcDaILIEkDCBWMBGAnAWhQOgAYBNOFbAFQCUQBdAXyA; ComponentLink4Description: Supplier 3 URL; ComponentLink4URL: N/A; Supplier 1 Name: Mouser; Supplier 1 SN: 998-MIC5219-5.0YM5TR; Supplier 1 URL: https://www.mouser.vn/ProductDetail/Microchip-Technology/MIC5219-5.0YM5-TR?qs=U6T8BxXiZAXThrqii9sAvA%3D%3D; Supplier 2 Name: Digi-Key; Supplier 2 SN: 576-2770-2-ND; Supplier 2 URL: https://www.digikey.com/en/products/detail/microchip-technology/MIC5219-5-0YM5-TR/1030586?s=N4IgTCBcDaILIEkDCBWMBGAnAWhQOgAYBNOFbAFQCUQBdAXyA; Supplier 3 Name: thegioiic; Supplier 3 SN: N/A; Supplier 3 URL: N/A; Value: 5.0V, 500 mA; Voltage Output: 5.0V
footprint MIC5219-x.xYM5 (MIC5219-x.xYM5, SOT-23-5)
pins: 1 IN (in), 2 GND (power), 3 EN (in), 4 OUT (out), 5 ADJ (in)
text: MIC5219-5.0YM5

## MIC5219-5.0YMMMSOP-8
designator U?, comment 5V, 500 mA
MIC5219-x family LDO Voltage Regulators, 5.0V output; Manufacturer: Microchip; Manufacturer SN: MIC5219-5.0YMM; Number of Outputs: 1; Input Voltage: 2.5 -12 V; Output Current: 500 mA; PSRR: 75 dB; Dropout Voltage: 350-600 mV; Mounting Style: SMD/SMT; Package / Case: MSOP-8; ComponentLink1Description: Datasheet link; ComponentLink1URL: https://ww1.microchip.com/downloads/en/DeviceDoc/MIC5219-500mA-Peak-Output-LDO-Regulator-DS20006021A.pdf; ComponentLink2Description: Supplier 1 URL; ComponentLink2URL: https://www.mouser.vn/ProductDetail/Microchip-Technology/MIC5219-5.0YMM?qs=kh6iOki%2FeLGcAZQ4JCOeow%3D%3D; ComponentLink3Description: Supplier 2 URL; ComponentLink3URL: https://www.digikey.com/en/products/detail/microchip-technology/MIC5219-5-0YMM/1030587; ComponentLink4Description: Supplier 3 URL; ComponentLink4URL: N/A; Supplier 1 Name: Mouser; Supplier 1 SN: 998-MIC5219-5.0YMM; Supplier 1 URL: https://www.mouser.vn/ProductDetail/Microchip-Technology/MIC5219-5.0YMM?qs=kh6iOki%2FeLGcAZQ4JCOeow%3D%3D; Supplier 2 Name: Digi-Key; Supplier 2 SN: 576-1828-5-ND; Supplier 2 URL: https://www.digikey.com/en/products/detail/microchip-technology/MIC5219-5-0YMM/1030587; Supplier 3 Name: thegioiic; Supplier 3 SN: N/A; Supplier 3 URL: N/A; Value: 5V, 500 mA; Voltage Output: 5V
footprint MIC5219-x.xYMM (MIC5219-x.xYMM, SOT-23-5)
pins: 1 EN (in), 2 IN (in), 3 OUT (out), 4 BYP, 5 GND (power), 6 GND (power), 7 GND (power), 8 GND (power)

## MIC5219-5.0YMT-TRMLF-6
designator U?, comment 5V, 500 mA
MIC5219-x family LDO Voltage Regulators, 5.0V output; Manufacturer: Microchip; Manufacturer SN: MIC5219-5.0YMT-TR; Number of Outputs: 1; Input Voltage: 2.5 -12 V; Output Current: 500 mA; PSRR: 75 dB; Dropout Voltage: 350-600 mV; Mounting Style: SMD/SMT; Package / Case: MLF-6; ComponentLink1Description: Datasheet link; ComponentLink1URL: https://ww1.microchip.com/downloads/en/DeviceDoc/MIC5219-500mA-Peak-Output-LDO-Regulator-DS20006021A.pdf; ComponentLink2Description: Supplier 1 URL; ComponentLink2URL: https://www.mouser.vn/ProductDetail/Microchip-Technology/MIC5219-5.0YMT-TR?qs=U6T8BxXiZAUlqYSj5RtOQw%3D%3D; ComponentLink3Description: Supplier 2 URL; ComponentLink3URL: https://www.digikey.com/en/products/detail/microchip-technology/MIC5219-5-0YMT-TR/2095492?s=N4IgTCBcDaILIEkDCBWMBGAnAWhQOgAYBNOAFW1ICUQBdAXyA; ComponentLink4Description: Supplier 3 URL; ComponentLink4URL: N/A; Supplier 1 Name: Mouser; Supplier 1 SN: 998-MIC5219-5.0YMTTR; Supplier 1 URL: https://www.mouser.vn/ProductDetail/Microchip-Technology/MIC5219-5.0YMT-TR?qs=U6T8BxXiZAUlqYSj5RtOQw%3D%3D; Supplier 2 Name: Digi-Key; Supplier 2 SN: 576-3521-2-ND; Supplier 2 URL: https://www.digikey.com/en/products/detail/microchip-technology/MIC5219-5-0YMT-TR/2095492?s=N4IgTCBcDaILIEkDCBWMBGAnAWhQOgAYBNOAFW1ICUQBdAXyA; Supplier 3 Name: thegioiic; Supplier 3 SN: N/A; Supplier 3 URL: N/A; Value: 5V, 500 mA; Voltage Output: 5V
footprint MIC5219-x.xYML/MT (MIC5219-x.xYML/MT, 6-Pin MLF)
pins: 1 EN (in), 2 GND (power), 3 IN (in), 4 OUT (out), 5 ADJ (in), 6 NC (in), 7 EP (power)
text: MIC5219-5.0YMT